# Altium integrated library 41xx.IntLib: 14 symbols
Pins are listed as number, name and electrical type; pins without a type are passive.

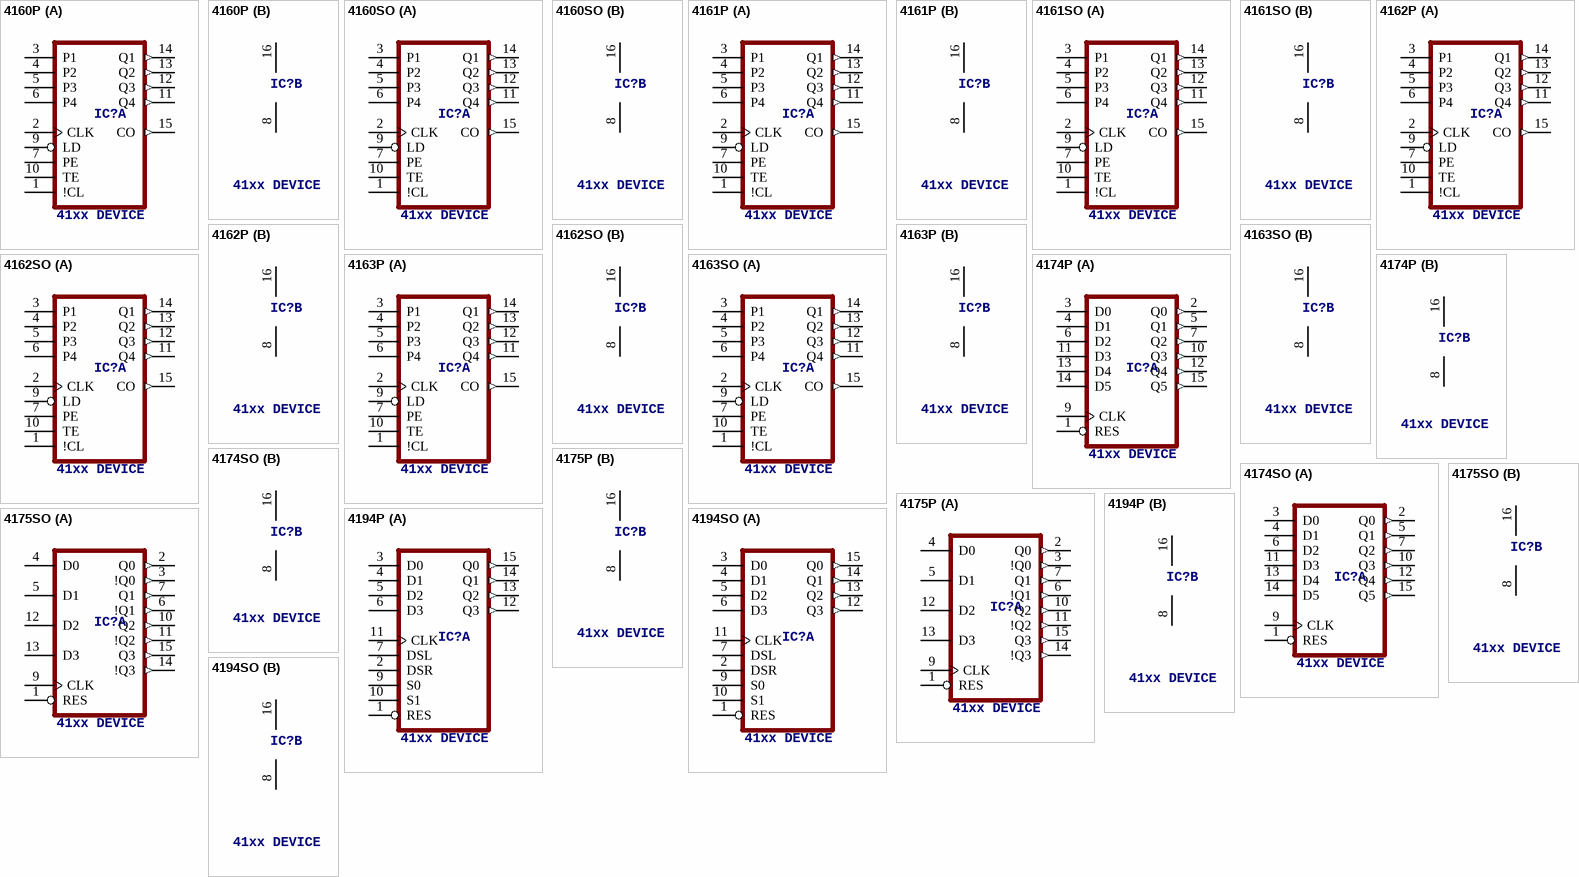
[diagram p0: symbols 4160P to 4194SO]

## 4160P
designator IC?, comment 41xx DEVICE
footprint DIL16
part A pins: 1 !CL, 2 CLK, 3 P1, 4 P2, 5 P3, 6 P4, 7 PE, 9 LD, 10 TE, 11 Q4 (out), 12 Q3 (out), 13 Q2 (out), 14 Q1 (out), 15 CO (out)
part B pins: 8 VSS (power), 16 VDD (power)

## 4160SO
designator IC?, comment 41xx DEVICE
footprint SO16
part A pins: 1 !CL, 2 CLK, 3 P1, 4 P2, 5 P3, 6 P4, 7 PE, 9 LD, 10 TE, 11 Q4 (out), 12 Q3 (out), 13 Q2 (out), 14 Q1 (out), 15 CO (out)
part B pins: 8 VSS (power), 16 VDD (power)

## 4161P
designator IC?, comment 41xx DEVICE
footprint DIL16
part A pins: 1 !CL, 2 CLK, 3 P1, 4 P2, 5 P3, 6 P4, 7 PE, 9 LD, 10 TE, 11 Q4 (out), 12 Q3 (out), 13 Q2 (out), 14 Q1 (out), 15 CO (out)
part B pins: 8 VSS (power), 16 VDD (power)

## 4161SO
designator IC?, comment 41xx DEVICE
footprint SO16
part A pins: 1 !CL, 2 CLK, 3 P1, 4 P2, 5 P3, 6 P4, 7 PE, 9 LD, 10 TE, 11 Q4 (out), 12 Q3 (out), 13 Q2 (out), 14 Q1 (out), 15 CO (out)
part B pins: 8 VSS (power), 16 VDD (power)

## 4162P
designator IC?, comment 41xx DEVICE
footprint DIL16
part A pins: 1 !CL, 2 CLK, 3 P1, 4 P2, 5 P3, 6 P4, 7 PE, 9 LD, 10 TE, 11 Q4 (out), 12 Q3 (out), 13 Q2 (out), 14 Q1 (out), 15 CO (out)
part B pins: 8 VSS (power), 16 VDD (power)

## 4162SO
designator IC?, comment 41xx DEVICE
footprint SO16
part A pins: 1 !CL, 2 CLK, 3 P1, 4 P2, 5 P3, 6 P4, 7 PE, 9 LD, 10 TE, 11 Q4 (out), 12 Q3 (out), 13 Q2 (out), 14 Q1 (out), 15 CO (out)
part B pins: 8 VSS (power), 16 VDD (power)

## 4163P
designator IC?, comment 41xx DEVICE
footprint DIL16
part A pins: 1 !CL, 2 CLK, 3 P1, 4 P2, 5 P3, 6 P4, 7 PE, 9 LD, 10 TE, 11 Q4 (out), 12 Q3 (out), 13 Q2 (out), 14 Q1 (out), 15 CO (out)
part B pins: 8 VSS (power), 16 VDD (power)

## 4163SO
designator IC?, comment 41xx DEVICE
footprint SO16
part A pins: 1 !CL, 2 CLK, 3 P1, 4 P2, 5 P3, 6 P4, 7 PE, 9 LD, 10 TE, 11 Q4 (out), 12 Q3 (out), 13 Q2 (out), 14 Q1 (out), 15 CO (out)
part B pins: 8 VSS (power), 16 VDD (power)

## 4174P
designator IC?, comment 41xx DEVICE
footprint DIL16
part A pins: 1 RES, 2 Q0 (out), 3 D0, 4 D1, 5 Q1 (out), 6 D2, 7 Q2 (out), 9 CLK, 10 Q3 (out), 11 D3, 12 Q4 (out), 13 D4, 14 D5, 15 Q5 (out)
part B pins: 8 VSS (power), 16 VDD (power)

## 4174SO
designator IC?, comment 41xx DEVICE
footprint SO16
part A pins: 1 RES, 2 Q0 (out), 3 D0, 4 D1, 5 Q1 (out), 6 D2, 7 Q2 (out), 9 CLK, 10 Q3 (out), 11 D3, 12 Q4 (out), 13 D4, 14 D5, 15 Q5 (out)
part B pins: 8 VSS (power), 16 VDD (power)

## 4175P
designator IC?, comment 41xx DEVICE
footprint DIL16
part A pins: 1 RES, 2 Q0 (out), 3 !Q0 (out), 4 D0, 5 D1, 6 !Q1 (out), 7 Q1 (out), 9 CLK, 10 Q2 (out), 11 !Q2 (out), 12 D2, 13 D3, 14 !Q3 (out), 15 Q3 (out)
part B pins: 8 VSS (power), 16 VDD (power)

## 4175SO
designator IC?, comment 41xx DEVICE
footprint SO16
part A pins: 1 RES, 2 Q0 (out), 3 !Q0 (out), 4 D0, 5 D1, 6 !Q1 (out), 7 Q1 (out), 9 CLK, 10 Q2 (out), 11 !Q2 (out), 12 D2, 13 D3, 14 !Q3 (out), 15 Q3 (out)
part B pins: 8 VSS (power), 16 VDD (power)

## 4194P
designator IC?, comment 41xx DEVICE
footprint DIL16
part A pins: 1 RES, 2 DSR, 3 D0, 4 D1, 5 D2, 6 D3, 7 DSL, 9 S0, 10 S1, 11 CLK, 12 Q3 (out), 13 Q2 (out), 14 Q1 (out), 15 Q0 (out)
part B pins: 8 VSS (power), 16 VDD (power)

## 4194SO
designator IC?, comment 41xx DEVICE
footprint SO16
part A pins: 1 RES, 2 DSR, 3 D0, 4 D1, 5 D2, 6 D3, 7 DSL, 9 S0, 10 S1, 11 CLK, 12 Q3 (out), 13 Q2 (out), 14 Q1 (out), 15 Q0 (out)
part B pins: 8 VSS (power), 16 VDD (power)